# Altium integrated library 74HC573AN.IntLib: 1 symbol
Pins are listed as number, name and electrical type; pins without a type are passive.

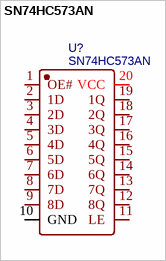
[diagram p0: symbol SN74HC573AN]

## SN74HC573AN
designator U?
BOM_Manufacturer: TI; spicePre: X; BOM_Supplier: LCSC; BOM_Manufacturer Part: SN74HC573AN; image: //image.lceda.cn/szlcsc/C5196.jpg; BOM_Supplier Part: C5196; spiceSymbolName: SN74HC573AN
footprint DIP-20_L26.8-W6.4-P2.54-LS7.6-BL
pins: 1 OE#, 2 1D, 3 2D, 4 3D, 5 4D, 6 5D, 7 6D, 8 7D, 9 8D, 10 GND, 11 LE, 12 8Q, 13 7Q, 14 6Q, 15 5Q, 16 4Q, 17 3Q, 18 2Q, 19 1Q, 20 VCC